# Altium schematic symbol library 74HCT1G126GW_125.SchLib: 1 symbol
Pins are listed as number, name and electrical type; pins without a type are passive.

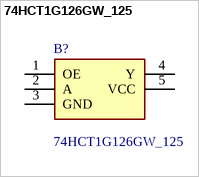
[diagram p0: symbol 74HCT1G126GW_125]

## 74HCT1G126GW_125
designator B?
74HC(T)1G126 - Bus buffer/line driver; 3-state@en-us; Manufacturer_Name: Nexperia; Manufacturer_Part_Number: 74HCT1G126GW,125; Geometry.Height: 1.1mm; Mouser Part Number: 771-HCT1G126GW125; Mouser Price/Stock: https://www.mouser.co.uk/ProductDetail/Nexperia/74HCT1G126GW125?qs=P62ublwmbi%2Fp3e%252BSdwAWWQ%3D%3D; Datasheet Link: https://assets.nexperia.com/documents/data-sheet/74HC_HCT1G126.pdf
footprint SOT65P212X110-5N
pins: 1 OE, 2 A, 3 GND, 4 Y, 5 VCC